# EAGLE library part MICRF112 (library RF_chips)
RF Transmitter Antenna 10-TFSOP, 10-MSOP (0.118", 3.00mm Width)
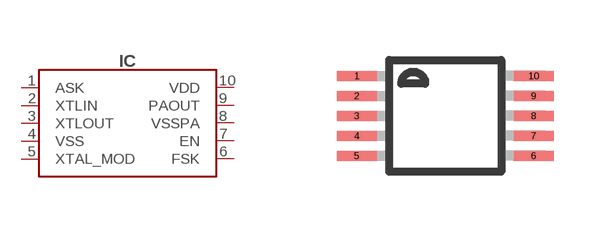
[diagram p1: symbol with the pads of MSOP10; footprint MSOP10]

Designator prefix IC

## MICRF112 (DIGIKEY#: MICRF112YMM-CT-ND; MANF: Microchip Technology; MANF#: MICRF112YMM-TR)  [MSOP10]
1  ASK
2  XTLIN
3  XTLOUT
4  VSS
5  XTAL_MOD
6  FSK
7  EN
8  VSSPA
9  PAOUT
10  VDD

## Footprint MSOP10 (pad centres in mm)
10-Lead Mini Small Outline Package [MSOP] (RM-10) Source: http://www.analog.com/UploadedFiles/Data_Sheets/35641221898805SSM2167_b.pdf COMPLIANT TO JEDEC STANDARDS MO-187BA
smd 1 x 0.25: 1 -2.213,1; 2 -2.213,0.5; 3 -2.213,0; 4 -2.213,-0.5; 5 -2.213,-1; 6 2.213,-1; 7 2.213,-0.5; 8 2.213,0; 9 2.213,0.5; 10 2.213,1